# Altium schematic symbol library JFD_Blank.SchLib: 1 symbol
Pins are listed as number, name and electrical type; pins without a type are passive.

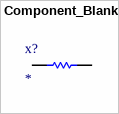
[diagram p0: symbol Component_Blank]

## Component_Blank
designator x?
Mfg: *; MfgPartNumber: *; Value: *; Digikey: *
pins: 1, 2